# Altium schematic symbol library SamacSys.SchLib: 20 symbols
Pins are listed as number, name and electrical type; pins without a type are passive.

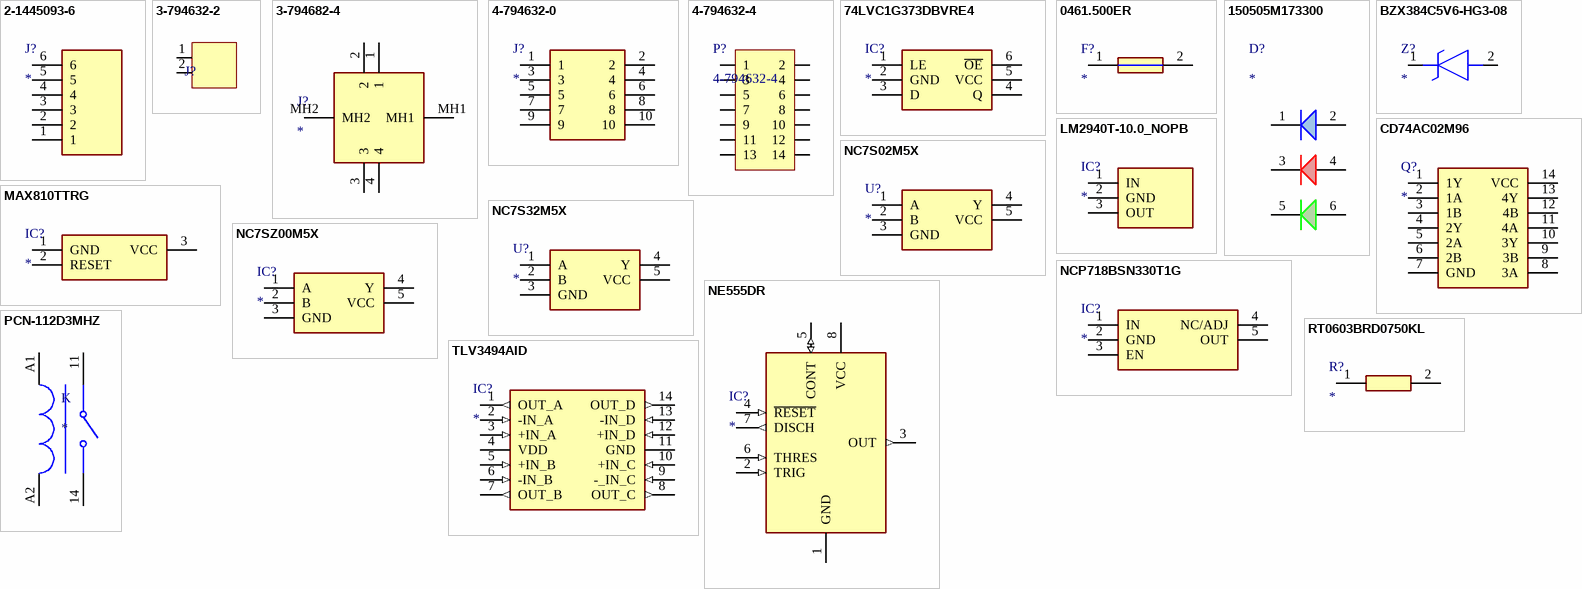
[diagram p0: symbols 2-1445093-6 to TLV3494AID]

## 2-1445093-6
designator J?
Connector; Manufacturer_Name: TE Connectivity; Manufacturer_Part_Number: 2-1445093-6; Datasheet Link: https://www.te.com/commerce/DocumentDelivery/DDEController?Action=srchrtrv&DocNm=1445093&DocType=Customer+Drawing&DocLang=English; Height: 9.24mm
footprint 214450936
pins: 1, 2, 3, 4, 5, 6

## 3-794632-2
designator J?  (value not drawn)
Micro MATE-N-LOK, Rectangular Power Connectors, Header, Plug, Wire-to-Board, 2 Position
footprint 3-794632-2 (2 Pos, Micro MATE-N-LOK)
pins: 1, 2

## 3-794682-4
designator J?
Connector; Manufacturer_Name: TE Connectivity; Manufacturer_Part_Number: 3-794682-4; Datasheet Link: https://www.te.com/commerce/DocumentDelivery/DDEController?Action=srchrtrv&DocNm=794682&DocType=Customer+Drawing&DocLang=English; Height: 9.24mm; Mouser Part Number: 571-3-794682-4; Mouser Price/Stock: https://www.mouser.co.uk/ProductDetail/TE-Connectivity-AMP/3-794682-4?qs=RxTKX8ffeSGbPzJtKAA7XQ%3D%3D; Arrow Part Number: 3-794682-4; Arrow Price/Stock: https://www.arrow.com/en/products/3-794682-4/te-connectivity
footprint 37946824
pins: 1, 2, 3, 4, MH1, MH2

## 4-794632-0
designator J?
Connector; Manufacturer_Name: TE Connectivity; Manufacturer_Part_Number: 4-794632-0; Datasheet Link: https://www.mouser.com/ProductDetail/TE-Connectivity-AMP/4-794632-0?qs=Rd%252BN518myCyGOpGRvqIhCg%3D%3D; Height: 9.44mm; Mouser Part Number: 571-4-794632-0; Mouser Price/Stock: https://www.mouser.co.uk/ProductDetail/TE-Connectivity-AMP/4-794632-0?qs=Rd%252BN518myCyGOpGRvqIhCg%3D%3D
footprint SHDR10W82P300_2X5_1586X686X944P
pins: 1, 2, 3, 4, 5, 6, 7, 8, 9, 10

## 4-794632-4
designator P?
Micro MATE-N-LOK, Rectangular Power Connectors, Header, Plug, Wire-to-Board, 14 Position
footprint 4-794632-4 (14 Way Micro MATE-N-LOK)
pins: 1, 2, 3, 4, 5, 6, 7, 8, 9, 10, 11, 12, 13, 14

## 74LVC1G373DBVRE4
designator IC?
Integrated Circuit; Manufacturer_Name: Texas Instruments; Manufacturer_Part_Number: 74LVC1G373DBVRE4; Datasheet Link: http://www.ti.com/general/docs/suppproductinfo.tsp?distId=10&gotoUrl=http%3A%2F%2Fwww.ti.com%2Flit%2Fgpn%2Fsn74lvc1g373; Height: 1.45mm
footprint SOT95P280X145-6N
pins: 1 LE, 2 GND, 3 D, 4 Q, 5 VCC, 6 ~{OE}

## 0461.500ER
designator F?
Fuse; Manufacturer_Name: LITTELFUSE; Manufacturer_Part_Number: 0461.500ER; Datasheet Link: https://componentsearchengine.com//0461.500ER.pdf; Height: 3.12mm; Mouser2 Part Number: 576-0461.500ER; Mouser2 Price/Stock: https://www.mouser.com/Search/Refine.aspx?Keyword=576-0461.500ER
footprint FUSC10131X312N
pins: 1, 2

## 150505M173300
designator D?
LED; Manufacturer_Name: Wurth Elektronik; Manufacturer_Part_Number: 150505M173300; Datasheet Link: https://componentsearchengine.com//150505M173300.pdf; Height: 1.8mm; Mouser2 Part Number: 710-150505M173300; Mouser2 Price/Stock: https://www.mouser.com/Search/Refine.aspx?Keyword=710-150505M173300
footprint 150505M173300
pins: 1, 2, 3, 4, 5, 6

## BZX384C5V6-HG3-08
designator Z?
Zener Diode; Manufacturer_Name: Vishay; Manufacturer_Part_Number: BZX384C5V6-HG3-08; Datasheet Link: https://componentsearchengine.com/Datasheets/1/BZX384C5V6-HG3-08.pdf; Height: 1.15mm
footprint SOD2713X115N
pins: 1 K, 2 A

## CD74AC02M96
designator Q?
MOSFET (N-Channel); Manufacturer_Name: Texas Instruments; Manufacturer_Part_Number: CD74AC02M96; Datasheet Link: http://www.ti.com/lit/gpn/cd74ac02; Height: 1.75mm
footprint SOIC127P600X175-14N
pins: 1 1Y, 2 1A, 3 1B, 4 2Y, 5 2A, 6 2B, 7 GND, 8 3A, 9 3B, 10 3Y, 11 4A, 12 4B, 13 4Y, 14 VCC

## LM2940T-10.0_NOPB
designator IC?
Integrated Circuit; Manufacturer_Name: Texas Instruments; Manufacturer_Part_Number: LM2940T-10.0/NOPB; Datasheet Link: http://www.ti.com/lit/gpn/lm2940-n; Height: 4.7mm; Mouser2 Part Number: 926-LM2940T-10.0NOPB; Mouser2 Price/Stock: https://www.mouser.com/Search/Refine.aspx?Keyword=926-LM2940T-10.0NOPB
footprint TO254P470X1028X1955-3P
pins: 1 IN, 2 GND, 3 OUT

## MAX810TTRG
designator IC?
Integrated Circuit; Manufacturer_Name: ON Semiconductor; Manufacturer_Part_Number: MAX810TTRG; Datasheet Link: http://www.onsemi.com/pub/Collateral/MAX809S-D.PDF; Height: 1.11mm
footprint SOT96P237X111-3N
pins: 1 GND (power), 2 RESET, 3 VCC (power)

## NC7S02M5X
designator U?
Undefined or Miscellaneous; Manufacturer_Name: ON Semiconductor; Manufacturer_Part_Number: NC7S02M5X; Height: 1.25mm
footprint SOT95P280X125-5N
pins: 1 A, 2 B, 3 GND, 4 Y, 5 VCC

## NC7S32M5X
designator U?
Undefined or Miscellaneous; Manufacturer_Name: ON Semiconductor; Manufacturer_Part_Number: NC7S32M5X; Datasheet Link: https://componentsearchengine.com/Datasheets/2/NC7S32M5X.pdf; Height: 1.1mm
footprint SOT95P275X110-5N
pins: 1 A, 2 B, 3 GND, 4 Y, 5 VCC

## NC7SZ00M5X
designator IC?
Integrated Circuit; Manufacturer_Name: ON Semiconductor; Manufacturer_Part_Number: NC7SZ00M5X; Height: 1.45mm
footprint SOT95P280X145-5N
pins: 1 A, 2 B, 3 GND (power), 4 Y, 5 VCC (power)

## NCP718BSN330T1G
designator IC?
Integrated Circuit; Manufacturer_Name: ON Semiconductor; Manufacturer_Part_Number: NCP718BSN330T1G; Datasheet Link: https://componentsearchengine.com//NCP718BSN330T1G.pdf; Height: 1mm; Mouser2 Part Number: 863-NCP718BSN330T1G; Mouser2 Price/Stock: https://www.mouser.com/Search/Refine.aspx?Keyword=863-NCP718BSN330T1G
footprint SOT95P280X100-5N
pins: 1 IN, 2 GND, 3 EN, 4 NC/ADJ, 5 OUT

## NE555DR
designator IC?
Integrated Circuit; Manufacturer_Name: Texas Instruments; Manufacturer_Part_Number: NE555DR; Datasheet Link: http://www.ti.com/lit/ds/symlink/ne555.pdf; Height: 1.75mm; Mouser Part Number: 595-NE555DR; Mouser Price/Stock: https://www.mouser.com/Search/Refine.aspx?Keyword=595-NE555DR; RS Part Number: 1218414; RS Price/Stock: http://uk.rs-online.com/web/p/products/1218414
footprint SOIC127P600X175-8N
pins: 1 GND (power), 2 TRIG (in), 3 OUT (out), 4 ~{RESET} (in), 5 CONT (io), 6 THRES (in), 7 DISCH (out), 8 VCC (power)

## PCN-112D3MHZ
designator K
Relay
footprint PCN-112D3MHZ
pins: 11, 14, A1, A2

## RT0603BRD0750KL
designator R?
Resistor; Manufacturer_Name: YAGEO (PHYCOMP); Manufacturer_Part_Number: RT0603BRD0750KL; Height: 0.55mm
footprint RESC1608X55N
footprint RESC1608X55N
pins: 1, 2

## TLV3494AID
designator IC?
Integrated Circuit; Manufacturer_Name: Texas Instruments; Manufacturer_Part_Number: TLV3494AID; Datasheet Link: http://www.ti.com/lit/gpn/tlv3494; Height: 1.75mm
footprint SOIC127P600X175-14N
pins: 1 OUT_A (out), 2 -IN_A (in), 3 +IN_A (in), 4 VDD (power), 5 +IN_B (in), 6 -IN_B (in), 7 OUT_B (out), 8 OUT_C (out), 9 -_IN_C (in), 10 +IN_C (in), 11 GND (power), 12 +IN_D (in), 13 -IN_D (in), 14 OUT_D (out)